# Altium schematic symbol library LaserDiode.SchLib: 1 symbol
Pins are listed as number, name and electrical type; pins without a type are passive.

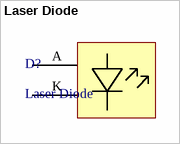
[diagram p0: symbol Laser Diode]

## Laser Diode
designator D?
footprint LaserDiode
pins: A, K